# Altium schematic symbol library KMB28STR.SchLib: 1 symbol
Pins are listed as number, name and electrical type; pins without a type are passive.

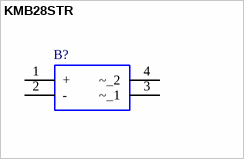
[diagram p0: symbol KMB28STR]

## KMB28STR
designator B?
BRIDGE RECT 1PHASE 80V 2A MBS; Manufacturer_Name: SMC Diode Solutions; Geometry.Height: 2.9mm; Mouser Part Number: *; Mouser Price/Stock: *; Manufacturer_Part_Number: KMB28STR; Datasheet Link: http://www.smc-diodes.com/propdf/KMB22S%20THRU%20KMB225S%20N1952%20REV.A.pdf
footprint SOP250P700X290-4N
pins: 1 +, 2 -, 3 ~_1, 4 ~_2